# Altium integrated library 20A_3V3_EVB.IntLib: 19 symbols
Pins are listed as number, name and electrical type; pins without a type are passive.

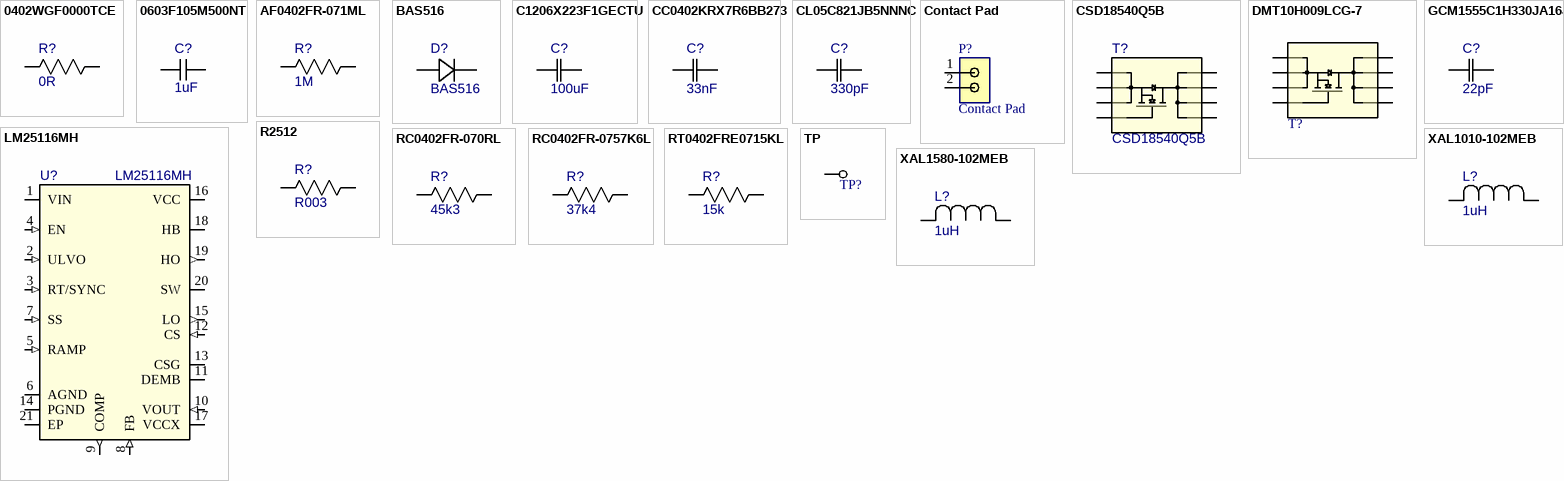
[diagram p0: symbols 0402WGF0000TCE to XAL1580-102MEB]

## 0402WGF0000TCE
designator R?, comment 0R
0R ±1% 1/16W; Mfr.: UNIOHM; ComponentLink1Description: taobao; ComponentLink1URL: https://item.taobao.com/item.htm?spm=a1z10.3-c-s.w4002-24706531953.10.75da6a4bMSLHjB&id=605411575000; Mfr. No: 0R; Price: 0.012
footprint 0402_PAN
pins: 1, 2

## 0603F105M500NT
designator C?, comment 1uF
1uF(105) ±20% 50V X7R 0603F105M500NT; MP: C0603C104Z3VACTU; MF: KEMET; Package: 0603 Kemet; Price: None; Value: *; ComponentLink1Description: Taobao; ComponentLink1URL: https://item.taobao.com/item.htm?spm=a1z09.2.0.0.1e6b2e8dpr7A02&id=560896377413&_u=o10quk0k0a55
footprint *CAPC1608X90
pins: 1, 2

## AF0402FR-071ML
designator R?, comment 1M
Thick Film Resistors - SMD 1 M Ohms 62.5mW 0402 1% AEC-Q200; Mfr. No: AF0402FR-071ML; Mfr.: YAGEO; ComponentLink1Description: mouser; ComponentLink1URL: https://www.mouser.hk/ProductDetail/YAGEO/AF0402FR-071ML?qs=tggtontpCXNv%2FYEDegbC%252Bg%3D%3D
footprint 0402_PAN
pins: 1, 2

## BAS516
designator D?
SOD-523 100V/250mA; Mfr_Name: Nexperia; Mfr#: BAS516,115; ComponentLink1Description: taobao; ComponentLink1URL: https://item.taobao.com/item.htm?spm=a1z09.2.0.0.2d822e8dT81QRi&id=581042346083&_u=f10quk0k8d2e
footprint SOD-523
pins: 1, 2

## C1206X223F1GECTU
designator C?, comment 100uF
C1206X223F1GECTU / MLCC - SMD/SMT 100V .022uF C0G 1206 1% Flex Term; Mfr.: KEMET; ComponentLink1Description: mouser; ComponentLink1URL: https://www.mouser.hk/ProductDetail/KEMET/C1206X223F1GECTU?qs=55YtniHzbhAlnL%252BX%2FcmTuw%3D%3D; Mfr. No: C1206X223F1GECTU
footprint 1210_AVX
pins: 1 11, 2 12

## CC0402KRX7R6BB273
designator C?, comment 33nF
CC0402KRX7R6BB273 / Multilayer Ceramic Capacitors MLCC - SMD/SMT 10V 0.027uF X7R 0402 10%; Mfr.: YAGEO; ComponentLink1Description: mouser; ComponentLink1URL: https://www.mouser.hk/ProductDetail/YAGEO/CC0402KRX7R6BB273?qs=p7WfUirPAdht7csjSrv75A%3D%3D; Mfr. No: CC0402KRX7R6BB273
footprint CAP_CC0402_YAG
pins: 1, 2

## CL05C821JB5NNNC
designator C?, comment 330pF
Multilayer Ceramic Capacitors MLCC - SMD/SMT 820pF+/-5% 50V C0G 1 0402; Mfr. No: CL05C821JB5NNNC; Mfr.: Samsung Electro-Mechanics; ComponentLink1Description: mouser; ComponentLink1URL: https://www.mouser.tw/ProductDetail/Samsung-Electro-Mechanics/CL05C821JB5NNNC?qs=No31MmStNcZxvIwfDC44GQ%3D%3D; ComponentLink2Description: taobao; ComponentLink2URL: https://item.taobao.com/item.htm?spm=a1z10.3-c-s.w4002-24706531953.21.3d6e6a4bs9pyv4&id=624575893257
footprint CAP_CC0402_YAG
pins: 1, 2

## Contact Pad
designator P?
footprint 2x3mmPad
pins: 1 P0, 2 P1

## CSD18540Q5B
designator T?
60-V, N-Channel NexFET; Mfr.: Texas Instruments; Mfr. No: CSD18540Q5B; ComponentLink1Description: taobao; ComponentLink1URL: https://item.taobao.com/item.htm?spm=a1z09.2.0.0.7dd72e8dVaXSZx&id=663046959853&_u=o10quk0k317e; Price: 7.80
footprint PQFNWB5x6
pins: 1, 2, 3, 4, 5, 6, 7, 8

## DMT10H009LCG-7
designator T?  (value not drawn)
No Description Available; Mfr_Name: Diodes Inc; Type: DEV; Copyright: Copyright (C) 2022 Ultra Librarian. All rights reserved.; Manufacturer_Part_Number: DMT10H009LCG-7; RefDes: RefDes
footprint SMT_009LCG-7_DIO
pins: 1, 2, 3, 4, 5, 6, 7, 8

## GCM1555C1H330JA16J
designator C?, comment 22pF
GCM1555C1H330JA16J; Mfr.: Murata Electronics; ComponentLink1Description: mouser; ComponentLink1URL: https://www.mouser.hk/ProductDetail/Murata-Electronics/GCM1555C1H330JA16J?qs=hNud%2FORuBR35r9xfgxU5AA%3D%3D; Mfr. No: GCM1555C1H330JA16J
footprint CAP_CC0402_YAG
pins: 1, 2

## LM25116MH
designator U?
Switching Controllers WIDE RANGE SYNC BUCK CONTROLLER; Mfr.: Texas Instruments; Mfr. No: LM25116MH; ComponentLink1Description: mouser; ComponentLink1URL: https://www.mouser.hk/ProductDetail/Texas-Instruments/LM25116MH-NOPB?qs=X1J7HmVL2ZFRPxaLhhIUKg%3D%3D
footprint 20-HTSSOP
pins: 1 VIN (power), 2 ULVO (in), 3 RT/SYNC (in), 4 EN (in), 5 RAMP (in), 6 AGND (power), 7 SS (in), 8 FB (in), 9 COMP (out), 10 VOUT (in), 11 DEMB, 12 CS (in), 13 CSG, 14 PGND (power), 15 LO (out), 16 VCC (power), 17 VCCX (power), 18 HB, 19 HO (out), 20 SW (power), 21 EP (power)

## R2512
designator R?, comment R003
R2512 R003; Mfr_Name: Bourns Electronics; ComponentLink1Description: taobao; ComponentLink1URL: https://item.taobao.com/item.htm?spm=a1z09.2.0.0.746c2e8dAcxOxc&id=627813942838&_u=f10quk0k7ebf
footprint R2512
pins: 1, 2

## RC0402FR-070RL
designator R?, comment 45k3
RC0402FR-070RL / Thick Film Resistors - SMD 0 Ohms 62.5mW 0402 1%; Mfr.: YAGEO; ComponentLink1Description: mouser; ComponentLink1URL: https://www.mouser.hk/ProductDetail/YAGEO/RC0402FR-070RL?qs=sxZXDnvRBEhfSy4CZGX2ww%3D%3D; Mfr. No: RC0402FR-070RL
footprint 0402_PAN
pins: 1, 2

## RC0402FR-0757K6L
designator R?, comment 37k4
Thick Film Resistors - SMD 57.6 kOhms 62.5mW 0402 1%; ComponentLink1Description: mouser; ComponentLink1URL: https://www.mouser.hk/ProductDetail/YAGEO/RC0402FR-0757K6L?qs=Is6ZsIPfHkYex3cihc3pCQ%3D%3D
footprint 0402_PAN
pins: 1, 2

## RT0402FRE0715KL
designator R?, comment 15k
RT0402FRE0715KL / SMD 1/16W 15K ohm 1% 50ppm; Mfr.: YAGEO; ComponentLink1Description: mouser; ComponentLink1URL: https://www.mouser.hk/ProductDetail/YAGEO/RT0402FRE0715KL?qs=BXCcY9r%252B08DJ61RmusQ2ew%3D%3D; Mfr. No: RT0402FRE0715KL
footprint 0402_PAN
pins: 1, 2

## TP
designator TP?  (value not drawn)
footprint 2mm_tp
pins: 1 TP

## XAL1010-102MEB
designator L?, comment 1uH
Mfr_Name: Coilcraft
footprint XAL1010
pins: 1, 2

## XAL1580-102MEB
designator L?, comment 1uH
Power Inductors - SMD 1.0uH Shld 20% 43.8A 1.93mOhms; Mfr_Name: Coilcraft; Manufacturer_Part_Number: XAL1580-102MEB
footprint IND_XAL1580_8.2_COC
pins: 1, 2